# Altium footprint library TMDX654GPEVM_BRD.PcbLib: 153 footprints (part 4 of 12)
Each footprint in its own frame and in the unit in brackets; x right, y up, seen from the top. Pads: shape width x height; smd on the part's side, far side on the other; paste and mask are expansions set on the pad; w line width, h text height; cw(c..) or ccw(c..) is an arc to the next point about the centre after c.
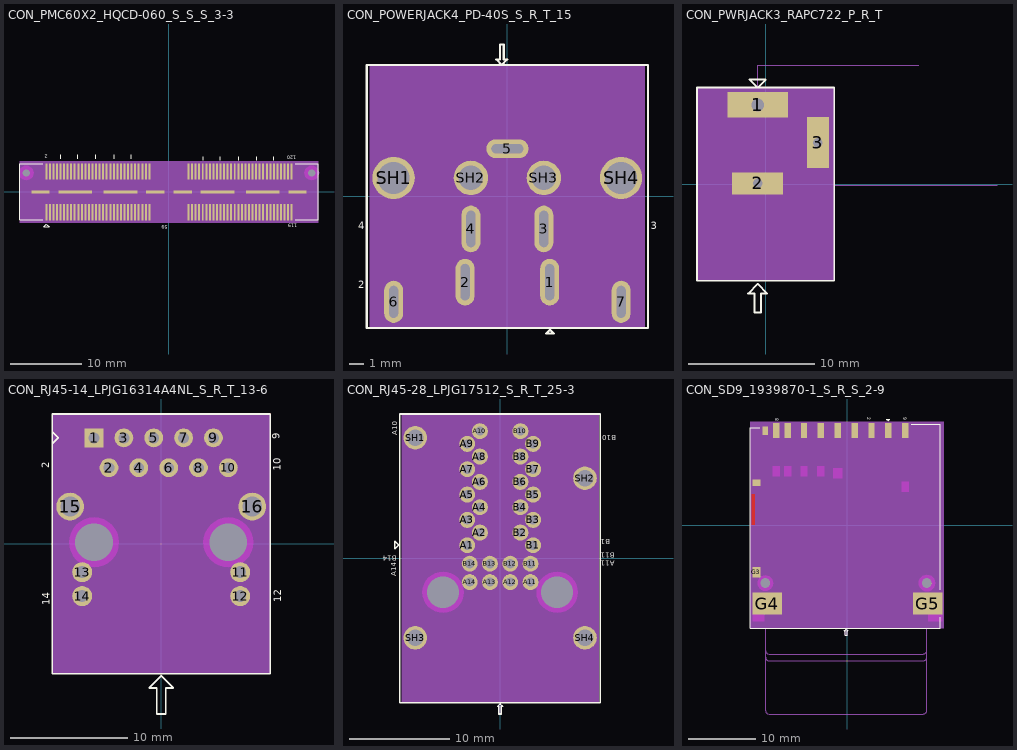
[diagram p3: the footprints below, top view; thin cyan lines are the x and y axes]

## CON_PMC60X2_HQCD-060_S_S_S_3-3 [mil] "CON_PMC60X2_HQCD-060_S_S_S_3-3"
pads (130):
  rect 11x90 smd: 1(-679.13,-112.99) 2(-679.13,112.99) 3(-659.45,-112.99) 4(-659.45,112.99) 5(-639.76,-112.99) 6(-639.76,112.99) 7(-620.08,-112.99) 8(-620.08,112.99) 9(-600.39,-112.99) 10(-600.39,112.99) 11(-580.71,-112.99) 12(-580.71,112.99) 13(-561.02,-112.99) 14(-561.02,112.99) 15(-541.34,-112.99) 16(-541.34,112.99) 17(-521.65,-112.99) 18(-521.65,112.99) 19(-501.97,-112.99) 20(-501.97,112.99) 21(-482.28,-112.99) 22(-482.28,112.99) 23(-462.6,-112.99) 24(-462.6,112.99) 25(-442.91,-112.99) 26(-442.91,112.99) 27(-423.23,-112.99) 28(-423.23,112.99) 29(-403.54,-112.99) 30(-403.54,112.99) 31(-383.86,-112.99) 32(-383.86,112.99) 33(-364.17,-112.99) 34(-364.17,112.99) 35(-344.49,-112.99) 36(-344.49,112.99) 37(-324.8,-112.99) 38(-324.8,112.99) 39(-305.12,-112.99) 40(-305.12,112.99) 41(-285.43,-112.99) 42(-285.43,112.99) 43(-265.75,-112.99) 44(-265.75,112.99) 45(-246.06,-112.99) 46(-246.06,112.99) 47(-226.38,-112.99) 48(-226.38,112.99) 49(-206.69,-112.99) 50(-206.69,112.99) 51(-187.01,-112.99) 52(-187.01,112.99) 53(-167.32,-112.99) 54(-167.32,112.99) 55(-147.64,-112.99) 56(-147.64,112.99) 57(-127.95,-112.99) 58(-127.95,112.99) 59(-108.27,-112.99) 60(-108.27,112.99) 61(108.27,-112.99) 62(108.27,112.99) 63(127.95,-112.99) 64(127.95,112.99) 65(147.64,-112.99) 66(147.64,112.99) 67(167.32,-112.99) 68(167.32,112.99) 69(187.01,-112.99) 70(187.01,112.99) 71(206.69,-112.99) 72(206.69,112.99) 73(226.38,-112.99) 74(226.38,112.99) 75(246.06,-112.99) 76(246.06,112.99) 77(265.75,-112.99) 78(265.75,112.99) 79(285.43,-112.99) 80(285.43,112.99) 81(305.12,-112.99) 82(305.12,112.99) 83(324.8,-112.99) 84(324.8,112.99) 85(344.49,-112.99) 86(344.49,112.99) 87(364.17,-112.99) 88(364.17,112.99) 89(383.86,-112.99) 90(383.86,112.99) 91(403.54,-112.99) 92(403.54,112.99) 93(423.23,-112.99) 94(423.23,112.99) 95(442.91,-112.99) 96(442.91,112.99) 97(462.6,-112.99) 98(462.6,112.99) 99(482.28,-112.99) 100(482.28,112.99) 101(501.97,-112.99) 102(501.97,112.99) 103(521.65,-112.99) 104(521.65,112.99) 105(541.34,-112.99) 106(541.34,112.99) 107(561.02,-112.99) 108(561.02,112.99) 109(580.71,-112.99) 110(580.71,112.99) 111(600.39,-112.99) 112(600.39,112.99) 113(620.08,-112.99) 114(620.08,112.99) 115(639.76,-112.99) 116(639.76,112.99) 117(659.45,-112.99) 118(659.45,112.99) 119(679.13,-112.99) 120(679.13,112.99)
  rect 100x17 smd: 121(-711.02,0) 124(-75.98,0) 125(76.38,0) 128(711.42,0)
  rect 186x17 smd: 122(-518.5,0) 123(-268.5,0) 126(268.9,0) 127(518.9,0)
  round 35 hole 40 unplated: ""(-789.76,105.12) ""(790.16,105.12)
Top Overlay:
  lines w6: -699.95,-155 -825,-155 -825,155 -699.95,155 ; -598.91,185 -598.91,205 ; -503.91,185 -503.91,205 ; -403.91,185 -403.91,205 ; -303.91,185 -303.91,205 ; -208.91,185 -208.91,205 ; 190.05,175 190.05,195 ; 285.05,175 285.05,195 ; 385.05,175 385.05,195 ; 485.05,175 485.05,195 ; 580.05,175 580.05,195 ; 700.05,-155 825,-155 825,155 700.05,155 ; -693.7,-192.5 -663.7,-192.5 -678.7,-177.5 -693.7,-192.5
  text "119" at 710.59,-175 h20
  text "120" at 705.59,200 h20
  text ".Designator" at 365.09,240 h30
  text "2" at -671.41,205 h20
  text "59" at -7.91,-185 h20
Top Courtyard:
  dashed: -822,-164.99 -822,164.99 822,164.99 822,-164.99
Top 3D Body:
  region: -825,-170 825,-170 825,170 -825,170
Multi-Layer keep-out:
  region: 830.5,105.12 829.13,94.68 825.1,84.95 818.68,76.59 810.33,70.18 800.6,66.15 790.16,64.77 779.71,66.15 769.98,70.18 761.63,76.59 755.22,84.95 751.19,94.68 749.81,105.12 751.19,115.56 755.22,125.29 761.63,133.65 769.98,140.06 779.71,144.09 790.16,145.46 800.6,144.09 810.33,140.06 818.68,133.65 825.1,125.29 829.13,115.56
  region: -749.42,105.12 -750.79,94.68 -754.82,84.95 -761.23,76.59 -769.59,70.18 -779.32,66.15 -789.76,64.77 -800.2,66.15 -809.93,70.18 -818.29,76.59 -824.7,84.95 -828.73,94.68 -830.11,105.12 -828.73,115.56 -824.7,125.29 -818.29,133.65 -809.93,140.06 -800.2,144.09 -789.76,145.46 -779.32,144.09 -769.59,140.06 -761.23,133.65 -754.82,125.29 -750.79,115.56
Mechanical47:
  text "53" at -170.32,-112.99 h10
  text "109" at 573.71,-112.99 h10
  text "50" at -209.69,112.99 h10
  text "32" at -386.86,112.99 h10
  text "10" at -603.39,112.99 h10
  text "8" at -619.08,112.99 h10
  text "6" at -638.76,112.99 h10
  text "14" at -564.02,112.99 h10
  text "26" at -445.91,112.99 h10
  text "1" at -678.13,-112.99 h10
  text "24" at -465.6,112.99 h10
  text "7" at -619.08,-112.99 h10
  text "40" at -308.12,112.99 h10
  text "52" at -190.01,112.99 h10
  text "38" at -327.8,112.99 h10
  text "54" at -170.32,112.99 h10
  text "18" at -524.65,112.99 h10
  text "28" at -426.23,112.99 h10
  text "20" at -504.97,112.99 h10
  text "2" at -678.13,112.99 h10
  text "4" at -658.45,112.99 h10
  text "127" at 506.9,0 h10
  text "128" at 699.42,0 h10
  text "35" at -347.49,-112.99 h10
  text "123" at -280.5,0 h10
  text "122" at -530.5,0 h10
  text "121" at -723.02,0 h10
  text "124" at -87.98,0 h10
  text "125" at 64.38,0 h10
  text "126" at 256.9,0 h10
  text "17" at -524.65,-112.99 h10
  text "30" at -406.54,112.99 h10
  text "36" at -347.49,112.99 h10
  text "12" at -583.71,112.99 h10
  text "22" at -485.28,112.99 h10
  text "5" at -638.76,-112.99 h10
  text "48" at -229.38,112.99 h10
  text "3" at -658.45,-112.99 h10
  text "44" at -268.75,112.99 h10
  text "46" at -249.06,112.99 h10
  text "16" at -544.34,112.99 h10
  text "34" at -367.17,112.99 h10
  text "55" at -150.64,-112.99 h10
  text "59" at -111.27,-112.99 h10
  text "57" at -130.95,-112.99 h10
  text "119" at 672.13,-112.99 h10
  text "117" at 652.45,-112.99 h10
  text "115" at 632.76,-112.99 h10
  text "113" at 613.08,-112.99 h10
  text "111" at 593.39,-112.99 h10
  text "107" at 554.02,-112.99 h10
  text "105" at 534.34,-112.99 h10
  text "60" at -111.27,112.99 h10
  text "56" at -150.64,112.99 h10
  text "58" at -130.95,112.99 h10
  text "31" at -386.86,-112.99 h10
  text "27" at -426.23,-112.99 h10
  text "51" at -190.01,-112.99 h10
  text "49" at -209.69,-112.99 h10
  text "47" at -229.38,-112.99 h10
  text "45" at -249.06,-112.99 h10
  text "43" at -268.75,-112.99 h10
  text "41" at -288.43,-112.99 h10
  text "39" at -308.12,-112.99 h10
  text "37" at -327.8,-112.99 h10
  text "33" at -367.17,-112.99 h10
  text "29" at -406.54,-112.99 h10
  text "25" at -445.91,-112.99 h10
  text "23" at -465.6,-112.99 h10
  text "21" at -485.28,-112.99 h10
  text "19" at -504.97,-112.99 h10
  text "42" at -288.43,112.99 h10
  text "68" at 164.32,112.99 h10
  text "100" at 475.28,112.99 h10
  text "101" at 494.97,-112.99 h10
  text "102" at 494.97,112.99 h10
  text "103" at 514.65,-112.99 h10
  text "104" at 514.65,112.99 h10
  text "106" at 534.34,112.99 h10
  text "108" at 554.02,112.99 h10
  text "110" at 573.71,112.99 h10
  text "112" at 593.39,112.99 h10
  text "114" at 613.08,112.99 h10
  text "116" at 632.76,112.99 h10
  text "61" at 105.27,-112.99 h10
  text "62" at 105.27,112.99 h10
  text "63" at 124.95,-112.99 h10
  text "64" at 124.95,112.99 h10
  text "65" at 144.64,-112.99 h10
  text "66" at 144.64,112.99 h10
  text "67" at 164.32,-112.99 h10
  text "69" at 184.01,-112.99 h10
  text "70" at 184.01,112.99 h10
  text "71" at 203.69,-112.99 h10
  text "72" at 203.69,112.99 h10
  text "73" at 223.38,-112.99 h10
  text "74" at 223.38,112.99 h10
  text "75" at 243.06,-112.99 h10
  text "76" at 243.06,112.99 h10
  text "77" at 262.75,-112.99 h10
  text "78" at 262.75,112.99 h10
  text "79" at 282.43,-112.99 h10
  text "80" at 282.43,112.99 h10
  text "81" at 302.12,-112.99 h10
  text "82" at 302.12,112.99 h10
  text "83" at 321.8,-112.99 h10
  text "84" at 321.8,112.99 h10
  text "85" at 341.49,-112.99 h10
  text "86" at 341.49,112.99 h10
  text "87" at 361.17,-112.99 h10
  text "88" at 361.17,112.99 h10
  text "89" at 380.86,-112.99 h10
  text "90" at 380.86,112.99 h10
  text "91" at 400.54,-112.99 h10
  text "92" at 400.54,112.99 h10
  text "93" at 420.23,-112.99 h10
  text "94" at 420.23,112.99 h10
  text "95" at 439.91,-112.99 h10
  text "96" at 439.91,112.99 h10
  text "97" at 459.6,-112.99 h10
  text "98" at 459.6,112.99 h10
  text "99" at 479.28,-112.99 h10
  text "11" at -583.71,-112.99 h10
  text "13" at -564.02,-112.99 h10
  text "9" at -599.39,-112.99 h10
  text "15" at -544.34,-112.99 h10
  text "118" at 652.45,112.99 h10
  text "120" at 672.13,112.99 h10
Top Assembly:
  lines w6: -815,-145 -815,145 815,145 815,-145 -815,-145 ; -790,-120 790,-120 790,90 760,120 -760,120 -790,90 -790,-120 ; -695,-165 -665,-165 -680,-150 -695,-165
3D body: height 150, standoff 0, extent -825,-170 825,170

## CON_POWERJACK4_PD-40S_S_R_T_15 [mil] "CON_POWERJACK4_PD-40S_S_R_T_15"
pads (11):
  oval 51x126 hole 98 slot 24 at 0 deg: 1(114.17,-231.77) 2(-114.17,-231.77) 3(98.42,-88.07) 4(-98.42,-88.07)
  oval 114x51 hole 24 slot 86 at 0 deg: 5(0,128.47)
  oval 51x114 hole 86 slot 24 at 0 deg: 6(-307.09,-284.92) 7(307.09,-284.92)
  round 114 hole 86: SH1(-307.09,49.73) SH4(307.09,49.73)
  round 93 hole 66: SH2(-98.42,49.73) SH3(98.42,49.73)
Top Overlay:
  lines w6: -380,-355.27 380,-355.27 380,354.73 -380,354.73 -380,-355.27 ; -30,369.73 -15,354.73 0,369.73 -10,369.73 -10,409.73 -20,409.73 -20,369.73 -30,369.73 ; 105,-370.27 115,-360.27 125,-370.27 105,-370.27
  text ".Designator" at -37.33,-403.62 h30
  text "2" at -403.33,-248.44 h20
  text "4" at -403.33,-88.44 h20
  text "3" at 386.67,-88.44 h20
Top Courtyard:
  dashed: -371.09,-352 -371.09,352 371.09,352 371.09,-352
Top 3D Body:
  region: -315,-345 315,-345 315,345 -315,345
Mechanical 10:
  lines w6: -315,-345 315,-345 315,345 -315,345 -315,-345 ; 105,-315.27 125,-315.27 115,-305.27 105,-315.27
  text "J2" at -27.83,-21.77 h30
Mechanical 11:
  lines w6: -315,-345 315,-345 315,345 -315,345 -315,-345 ; 105,-315.27 125,-315.27 115,-305.27 105,-315.27
  text "J2" at -27.83,-21.77 h30
Mechanical 12:
  lines w6: -315,-345 315,-345 315,345 -315,345 -315,-345 ; 105,-315.27 125,-315.27 115,-305.27 105,-315.27
  text "J2" at -27.83,-21.77 h30
Mechanical 13:
  lines w6: -315,-345 315,-345 315,345 -315,345 -315,-345 ; 105,-315.27 125,-315.27 115,-305.27 105,-315.27
  text "J2" at -27.83,-21.77 h30
Mechanical 14:
  lines w6: -315,-345 315,-345 315,345 -315,345 -315,-345 ; 105,-315.27 125,-315.27 115,-305.27 105,-315.27
  text "J2" at -27.83,-21.77 h30
Mechanical47:
  text "2" at -114.17,-238.44 h10
  text "1" at 114.17,-238.44 h10
  text "SH2" at -110.42,49.73 h10
  text "SH3" at 86.42,49.73 h10
  text "SH1" at -319.09,49.73 h10
  text "SH4" at 295.09,49.73 h10
  text "5" at -7.33,121.13 h10
  text "6" at -315.09,-284.92 h10
  text "7" at 299.09,-284.92 h10
  text "4" at -98.42,-94.74 h10
  text "3" at 98.42,-94.74 h10
Top Assembly:
  lines w6: -315,-345 315,-345 315,345 -315,345 -315,-345 ; 105,-315.27 125,-315.27 115,-305.27 105,-315.27
3D body: height 150, standoff 0, extent -315,-345 315,345

## CON_PWRJACK3_RAPC722_P_R_T [mil] "CON_PWRJACK3_RAPC722_P_R_T"
pads (3):
  rect 190x80 hole 40: 1(-25,248.45)
  rect 160x70 hole 30: 2(-25,2.38)
  rect 70x160 hole 30: 3(163.98,130.33)
Top Overlay:
  lines w6: -215,-302.5 -215,302.5 215,302.5 215,-302.5 -215,-302.5 ; -55,-342.5 -25,-312.5 5,-342.5 -15,-342.5 -15,-402.5 -35,-402.5 -35,-342.5 -55,-342.5 ; -50,327.5 -25,302.5 0,327.5 -50,327.5
  text ".Designator" at 216.5,351.85 h30
Top Courtyard:
  dashed: -212,-299.5 -212,295.45 205.98,295.45 205.98,-299.5
Top 3D Body:
  region: -215,302.5 -215,-302.5 215,-302.5 215,302.5 -5,302.5 -45,302.5
Mechanical 10:
  lines w6: -205,-292.5 155,-292.5 155,277.5 -5,277.5 -25,257.5 -45,277.5 -205,277.5 -205,-292.5
  text "J1" at -3.5,41.85 h30
Mechanical 11:
  lines w6: -205,-292.5 155,-292.5 155,277.5 -5,277.5 -25,257.5 -45,277.5 -205,277.5 -205,-292.5
  text "J1" at -3.5,41.85 h30
Mechanical 12:
  lines w6: -205,-292.5 155,-292.5 155,277.5 -5,277.5 -25,257.5 -45,277.5 -205,277.5 -205,-292.5
  text "J1" at -3.5,41.85 h30
Mechanical 13:
  lines w6: -205,-292.5 155,-292.5 155,277.5 -5,277.5 -25,257.5 -45,277.5 -205,277.5 -205,-292.5
  text "J1" at -3.5,41.85 h30
Mechanical 14:
  lines w6: -205,-292.5 155,-292.5 155,277.5 -5,277.5 -25,257.5 -45,277.5 -205,277.5 -205,-292.5
  text "J1" at -3.5,41.85 h30
Mechanical 15:
  lines w6: -215,-292.5 215,-292.5
  text "PCB-EDGE" at 31.5,-232.15 h30
Mechanical 16:
  lines w6: -215,-292.5 215,-292.5
  text "PCB-EDGE" at 31.5,-232.15 h30
Mechanical 17:
  lines w6: -215,-292.5 215,-292.5
  text "PCB-EDGE" at 31.5,-232.15 h30
Mechanical 18:
  lines w6: -215,-292.5 215,-292.5
  text "PCB-EDGE" at 31.5,-232.15 h30
Mechanical 19:
  lines w6: -215,-292.5 215,-292.5
  text "PCB-EDGE" at 31.5,-232.15 h30
Mechanical47:
  text "1" at -13,242.08 h10
  text "3" at 174.95,127 h10
  text "2" at -13,-2.92 h10
Top Assembly:
  lines w6: -205,-292.5 155,-292.5 155,277.5 -5,277.5 -25,257.5 -45,277.5 -205,277.5 -205,-292.5
Bottom Assembly:
  lines w6: -215,-292.5 215,-292.5
  text "PCB-EDGE" at 31.5,-232.15 h30
Mechanical52:
  lines w1: 350,-2.5 -10,-2.5 ; 480,372.5 -25,372.5 -25,267.5 ; 725,-2.5 165,-2.5 165,112.5 ; -25,267.5 -40,282.5 -10,282.5 -25,267.5 ; -10,-2.5 0,7.5 0,-12.5 -10,-2.5 ; 165,112.5 175,102.5 155,102.5 165,112.5 ; -95.08,227.62 -95.08,267.38 45.08,267.38 45.08,227.62 -95.08,227.62 ; -85.04,-13.52 -85.04,16.4 35.04,16.4 35.04,-13.52 -85.04,-13.52 ; 149.02,69.35 178.94,69.35 178.94,189.43 149.02,189.43 149.02,69.35
  text "SLOT SIZE: 0.76X3.05MM" at 225,7.5 h30
  text "SLOT SIZE: 1.02X3.56MM" at -30,382.5 h30
3D body: height 150, standoff 0, extent -215,-302.5 215,302.5

## CON_RJ45-14_LPJG16314A4NL_S_R_T_13-6 [mil] "CON_RJ45-14_LPJG16314A4NL_S_R_T_13-6"
pads (18):
  rect 63x63 / inner round 63 / far side rect 63x63 hole 36: 1(-225,355)
  round 63 hole 36: 2(-175,255) 3(-125,355) 4(-75,255) 5(-25,355) 6(25,255) 7(75,355) 8(125,255) 9(175,355) 10(225,255)
  round 67 hole 40: 11(264.76,-95) 12(264.76,-175) 13(-264.76,-95) 14(-264.76,-175)
  round 93 hole 66: 15(-305,125) 16(305,125)
  round 121 hole 126 unplated: ""(-225,5) ""(225,5)
Top Overlay:
  lines w6: -365,-435 -365,335 -345,355 -365,375 -365,330 -365,435 365,435 365,-435 -365,-435 ; -40,-482.5 0,-442.5 40,-482.5 15,-482.5 15,-570 -15,-570 -15,-482.5 -40,-482.5
  text ".Designator" at -382.2,121 h30
  text "2" at -374.7,252.5 h25
  text "10" at 400.85,244.92 h25
  text "14" at -373.87,-206 h25
  text "12" at 401.96,-195.41 h25
  text "9" at 396.44,351.09 h25
Top Courtyard:
  dashed: -358.5,-432 358.5,-432 358.5,432 -358.5,432
Top 3D Body:
  region: -365,435 -365,-435 365,-435 365,435
Mechanical 10:
  lines w6: -315,-425 315,-425 315,425 -315,425 -315,330 -315,375 -295,355 -315,335 -315,-425
  text "J12" at 17.8,-49 h30
Mechanical 11:
  lines w6: -315,-425 315,-425 315,425 -315,425 -315,330 -315,375 -295,355 -315,335 -315,-425
  text "J12" at 17.8,-49 h30
Mechanical 12:
  lines w6: -315,-425 315,-425 315,425 -315,425 -315,330 -315,375 -295,355 -315,335 -315,-425
  text "J12" at 17.8,-49 h30
Mechanical 13:
  lines w6: -315,-425 315,-425 315,425 -315,425 -315,330 -315,375 -295,355 -315,335 -315,-425
  text "J12" at 17.8,-49 h30
Mechanical 14:
  lines w6: -315,-425 315,-425 315,425 -315,425 -315,330 -315,375 -295,355 -315,335 -315,-425
  text "J12" at 17.8,-49 h30
Multi-Layer keep-out:
  region: -225,88.4 -241.27,86.8 -256.92,82.05 -271.34,74.35 -283.97,63.97 -294.35,51.34 -302.05,36.92 -306.8,21.27 -308.4,5 -306.8,-11.27 -302.05,-26.92 -296.92,-36.52 -294.35,-41.34 -283.97,-53.97 -271.34,-64.35 -256.92,-72.05 -241.27,-76.8 -225,-78.4 -208.73,-76.8 -193.08,-72.05 -178.66,-64.35 -166.03,-53.97 -155.65,-41.34 -153.08,-36.52 -147.95,-26.92 -143.2,-11.27 -141.6,5 -143.2,21.27 -147.95,36.92 -155.65,51.34 -166.03,63.97 -178.66,74.35 -193.08,82.05 -208.73,86.8
  region: 225,88.4 208.73,86.8 193.08,82.05 178.66,74.35 166.03,63.97 155.65,51.34 147.95,36.92 143.2,21.27 141.6,5 143.2,-11.27 147.95,-26.92 153.08,-36.52 155.65,-41.34 166.03,-53.97 178.66,-64.35 193.08,-72.05 208.73,-76.8 225,-78.4 241.27,-76.8 256.92,-72.05 271.34,-64.35 283.97,-53.97 294.35,-41.34 296.92,-36.52 302.05,-26.92 306.8,-11.27 308.4,5 306.8,21.27 302.05,36.92 294.35,51.34 283.97,63.97 271.34,74.35 256.92,82.05 241.27,86.8
Mechanical47:
  text "10" at 225,247 h10
  text "5" at -25,351 h10
  text "9" at 175,351 h10
  text "11" at 264.76,-103 h10
  text "4" at -75,251 h10
  text "2" at -175,251 h10
  text "7" at 75,351 h10
  text "8" at 125,251 h10
  text "6" at 25,251 h10
  text "3" at -125,351 h10
  text "1" at -225,351 h10
  text "12" at 264.76,-183 h10
  text "14" at -264.76,-183 h10
  text "13" at -264.76,-103 h10
  text "16" at 305,113.67 h10
  text "15" at -305,113.67 h10
Top Assembly:
  lines w6: -315,-425 315,-425 315,425 -315,425 -315,330 -315,375 -295,355 -315,335 -315,-425
3D body: height 150, standoff 0, extent -365,-435 365,435

## CON_RJ45-28_LPJG17512_S_R_T_25-3 [mil] "CON_RJ45-28_LPJG17512_S_R_T_25-3"
pads (34):
  round 63 hole 36: A1(-129.72,52.2) A2(-79.72,102.2) A3(-129.72,152.2) A4(-79.72,202.2) A5(-129.72,252.2) A6(-79.72,302.2) A7(-129.72,352.2) A8(-79.72,402.2) A9(-129.72,452.2) A10(-79.72,502.2) A11(119.88,-93.47) A12(39.96,-93.47) A13(-39.96,-93.47) A14(-119.88,-93.47) B1(130.12,52.2) B2(80.12,102.2) B3(130.12,152.2) B4(80.12,202.2) B5(130.12,252.2) B6(80.12,302.2) B7(130.12,352.2) B8(80.12,402.2) B9(130.12,452.2) B10(80.12,502.2) B11(119.88,-20.63) B12(39.96,-20.63) B13(-39.96,-20.63) B14(-119.88,-20.63)
  round 93 hole 66: SH1(-334.84,476.61) SH2(334.84,316.77) SH3(-334.84,-313.15) SH4(334.84,-313.15)
  round 121 hole 126 unplated: ""(-225,-133.23) ""(225,-133.23)
Top Overlay:
  lines w6: -415,38.03 -415,68.03 -400,53.03 -415,38.03 ; -395,-570 -395,570 395,570 395,-570 -395,-570 ; -10,-583.62 0,-573.62 10,-583.62 5,-583.62 5,-613.62 -5,-613.62 -5,-583.62 -10,-583.62
  text ".Designator" at 31.8,615 h30
  text "A10" at -405.54,485.5 h20
  text "B10" at 457.3,486.67 h20
  text "B1" at 433.8,76.67 h20
  text "A11" at 452.3,-8.33 h20
  text "B11" at 452.3,21.67 h20
  text "A14" at -410.54,-69.5 h20
  text "B14" at -407.7,11.67 h20
Top Courtyard:
  dashed: -388.34,-567 -388.34,567 388.34,567 388.34,-567
Top 3D Body:
  region: -340,-560 340,-560 340,560 -340,560
Mechanical 10:
  lines w6: -340,-560 340,-560 340,560 -340,560 -340,-560 ; -195,38.03 -195,68.03 -180,53.03 -195,38.03 ; -10,-583.62 0,-573.62 10,-583.62 5,-583.62 5,-613.62 -5,-613.62 -5,-583.62 -10,-583.62
  text "J14" at -21.72,22.2 h30
Mechanical 11:
  lines w6: -340,-560 340,-560 340,560 -340,560 -340,-560 ; -195,38.03 -195,68.03 -180,53.03 -195,38.03 ; -10,-583.62 0,-573.62 10,-583.62 5,-583.62 5,-613.62 -5,-613.62 -5,-583.62 -10,-583.62
  text "J14" at -21.72,22.2 h30
Mechanical 12:
  lines w6: -340,-560 340,-560 340,560 -340,560 -340,-560 ; -195,38.03 -195,68.03 -180,53.03 -195,38.03 ; -10,-583.62 0,-573.62 10,-583.62 5,-583.62 5,-613.62 -5,-613.62 -5,-583.62 -10,-583.62
  text "J14" at -21.72,22.2 h30
Mechanical 13:
  lines w6: -340,-560 340,-560 340,560 -340,560 -340,-560 ; -195,38.03 -195,68.03 -180,53.03 -195,38.03 ; -10,-583.62 0,-573.62 10,-583.62 5,-583.62 5,-613.62 -5,-613.62 -5,-583.62 -10,-583.62
  text "J14" at -21.72,22.2 h30
Mechanical 14:
  lines w6: -340,-560 340,-560 340,560 -340,560 -340,-560 ; -195,38.03 -195,68.03 -180,53.03 -195,38.03 ; -10,-583.62 0,-573.62 10,-583.62 5,-583.62 5,-613.62 -5,-613.62 -5,-583.62 -10,-583.62
  text "J14" at -21.72,22.2 h30
Multi-Layer keep-out:
  region: 225,-51.84 209.12,-53.4 193.85,-58.03 179.78,-65.55 167.45,-75.68 157.32,-88.01 149.8,-102.08 145.17,-117.35 143.61,-133.23 145.17,-149.11 149.8,-164.38 154.81,-173.75 157.32,-178.45 167.45,-190.78 179.78,-200.9 193.85,-208.43 209.12,-213.06 225,-214.62 240.88,-213.06 256.15,-208.43 270.22,-200.9 282.55,-190.78 292.67,-178.45 295.19,-173.75 300.2,-164.38 304.83,-149.11 306.39,-133.23 304.83,-117.35 300.2,-102.08 292.67,-88.01 282.55,-75.68 270.22,-65.55 256.15,-58.03 240.88,-53.4
  region: -225,-51.84 -240.88,-53.4 -256.15,-58.03 -270.22,-65.55 -282.55,-75.68 -292.67,-88.01 -300.2,-102.08 -304.83,-117.35 -306.39,-133.23 -304.83,-149.11 -300.2,-164.38 -295.19,-173.75 -292.67,-178.45 -282.55,-190.78 -270.22,-200.9 -256.15,-208.43 -240.88,-213.06 -225,-214.62 -209.12,-213.06 -193.85,-208.43 -179.78,-200.9 -167.45,-190.78 -157.32,-178.45 -154.81,-173.75 -149.8,-164.38 -145.17,-149.11 -143.61,-133.23 -145.17,-117.35 -149.8,-102.08 -157.32,-88.01 -167.45,-75.68 -179.78,-65.55 -193.85,-58.03 -209.12,-53.4
Mechanical47:
  text "SH1" at -334.84,464.61 h10
  text "SH2" at 334.84,304.77 h10
  text "SH3" at -334.84,-325.15 h10
  text "SH4" at 334.84,-325.15 h10
  text "A4" at -79.72,194.2 h10
  text "A10" at -79.72,490.2 h10
  text "B10" at 80.12,490.2 h10
  text "A2" at -79.72,94.2 h10
  text "A9" at -129.72,444.2 h10
  text "A5" at -129.72,244.2 h10
  text "A3" at -129.72,144.2 h10
  text "A1" at -129.72,44.2 h10
  text "A7" at -129.72,344.2 h10
  text "A6" at -79.72,294.2 h10
  text "A8" at -79.72,394.2 h10
  text "A12" at 39.96,-105.47 h10
  text "B11" at 119.88,-32.63 h10
  text "B13" at -39.96,-32.63 h10
  text "B14" at -119.88,-32.63 h10
  text "A13" at -39.96,-105.47 h10
  text "A14" at -119.88,-105.47 h10
  text "A11" at 119.88,-105.47 h10
  text "B3" at 130.12,144.2 h10
  text "B1" at 130.12,44.2 h10
  text "B7" at 130.12,344.2 h10
  text "B9" at 130.12,444.2 h10
  text "B12" at 39.96,-32.63 h10
  text "B5" at 130.12,244.2 h10
  text "B2" at 80.12,94.2 h10
  text "B6" at 80.12,294.2 h10
  text "B4" at 80.12,194.2 h10
  text "B8" at 80.12,394.2 h10
Top Assembly:
  lines w6: -340,-560 340,-560 340,560 -340,560 -340,-560 ; -195,38.03 -195,68.03 -180,53.03 -195,38.03 ; -10,-583.62 0,-573.62 10,-583.62 5,-583.62 5,-613.62 -5,-613.62 -5,-583.62 -10,-583.62
3D body: height 150, standoff 0, extent -340,-560 340,560

## CON_SD9_1939870-1_S_R_S_2-9 [mil] "CON_SD9_1939870-1_S_R_S_2-9"
pads (16):
  rect 37x85 smd: 1(241.26,551.2) 2(142.83,551.2) 3(44.41,551.2) 4(-54.02,551.2) 5(-152.44,551.2) 6(-250.87,551.2) 7(-346.34,551.2) 8(-413.27,551.2) 9(339.68,551.2)
  rect 33x49 smd: G1(-476.26,549.23)
  rect 46x37 smd: G2(-528.03,247.26)
  rect 46x61 smd: G3(-528.03,-276.75)
  rect 172x128 smd: G4(-465.24,-458.64) G5(470.98,-458.64)
  round 51 hole 56 unplated: ""(-476.26,-338.56) ""(466.26,-338.56)
Top Layer:
  region: -554.21,1.99 -554.21,179.15 -538.46,179.15 -538.46,1.99
Top Layer keep-out:
  region: -432.95,283.48 -432.95,342.54 -393.58,342.54 -393.58,283.48
  region: -366.02,283.48 -366.02,342.54 -326.65,342.54 -326.65,283.48
  region: -270.55,283.48 -270.55,342.54 -231.18,342.54 -231.18,283.48
  region: -172.13,283.48 -172.13,342.54 -132.76,342.54 -132.76,283.48
  region: 320,192.93 320,251.99 359.37,251.99 359.37,192.93
  region: -79.61,271.67 -79.61,330.73 -28.43,330.73 -28.43,271.67
  region: -550.27,-561 -550.27,-521.63 -483.35,-521.63 -483.35,-561
  region: 473.35,-561 473.35,-521.63 556.02,-521.63 556.02,-561
Top Overlay:
  lines w6: -510,567.5 -565,567.5 -565,-602.5 545,-602.5 545,-537.5 ; 375,587.5 545,587.5 545,-377.5 ; -15,-617.5 -5,-607.5 5,-617.5 0,-617.5 0,-642.5 -10,-642.5 -10,-617.5 -15,-617.5 ; 230,617.5 250,617.5 240,607.5 230,617.5
  text ".Designator" at 575,-10.98 h30
  text "9" at 328.33,627.52 h20
  text "8" at -420,622.52 h20
  text "2" at 118.33,627.52 h20
Top Courtyard:
  dashed: -558.24,600.7 -558.24,-599.5 563.98,-599.5 563.98,600.7
Top 3D Body:
  region: -565,602.5 -565,-602.5 565,-602.5 565,602.5
Mechanical 10:
  lines w6: -475,-772.5 ccw(c-455,-772.5) -455,-792.5 445,-792.5 ccw(c445,-772.5) 465,-772.5 ; -475,-732.5 ccw(c-455,-732.5) -455,-752.5 445,-752.5 ccw(c445,-732.5) 465,-732.5 ; -475,-592.5 -545,-592.5 -545,557.5 435,557.5 435,577.5 535,577.5 535,-592.5 -475,-592.5 ; -475,-592.5 -475,-1082.5 ccw(c-455,-1082.5) -455,-1102.5 445,-1102.5 ccw(c445,-1082.5) 465,-1082.5 465,-592.5 -475,-592.5 ; -15,-617.5 -5,-607.5 5,-617.5 0,-617.5 0,-642.5 -10,-642.5 -10,-617.5 -15,-617.5 ; 230,572.5 250,572.5 240,562.5 230,572.5
  text "EJECT" at -46.5,-1069.17 h20
  text "MATING" at -55,-784.17 h20
  text "PUSH" at -43,-734.17 h20
  text "J17" at -10,24.02 h30
Mechanical 11:
  lines w6: -475,-772.5 ccw(c-455,-772.5) -455,-792.5 445,-792.5 ccw(c445,-772.5) 465,-772.5 ; -475,-732.5 ccw(c-455,-732.5) -455,-752.5 445,-752.5 ccw(c445,-732.5) 465,-732.5 ; -475,-592.5 -545,-592.5 -545,557.5 435,557.5 435,577.5 535,577.5 535,-592.5 -475,-592.5 ; -475,-592.5 -475,-1082.5 ccw(c-455,-1082.5) -455,-1102.5 445,-1102.5 ccw(c445,-1082.5) 465,-1082.5 465,-592.5 -475,-592.5 ; -15,-617.5 -5,-607.5 5,-617.5 0,-617.5 0,-642.5 -10,-642.5 -10,-617.5 -15,-617.5 ; 230,572.5 250,572.5 240,562.5 230,572.5
  text "EJECT" at -46.5,-1069.17 h20
  text "MATING" at -55,-784.17 h20
  text "PUSH" at -43,-734.17 h20
  text "J17" at -10,24.02 h30
Mechanical 12:
  lines w6: -475,-772.5 ccw(c-455,-772.5) -455,-792.5 445,-792.5 ccw(c445,-772.5) 465,-772.5 ; -475,-732.5 ccw(c-455,-732.5) -455,-752.5 445,-752.5 ccw(c445,-732.5) 465,-732.5 ; -475,-592.5 -545,-592.5 -545,557.5 435,557.5 435,577.5 535,577.5 535,-592.5 -475,-592.5 ; -475,-592.5 -475,-1082.5 ccw(c-455,-1082.5) -455,-1102.5 445,-1102.5 ccw(c445,-1082.5) 465,-1082.5 465,-592.5 -475,-592.5 ; -15,-617.5 -5,-607.5 5,-617.5 0,-617.5 0,-642.5 -10,-642.5 -10,-617.5 -15,-617.5 ; 230,572.5 250,572.5 240,562.5 230,572.5
  text "EJECT" at -46.5,-1069.17 h20
  text "MATING" at -55,-784.17 h20
  text "PUSH" at -43,-734.17 h20
  text "J17" at -10,24.02 h30
Mechanical 13:
  lines w6: -475,-772.5 ccw(c-455,-772.5) -455,-792.5 445,-792.5 ccw(c445,-772.5) 465,-772.5 ; -475,-732.5 ccw(c-455,-732.5) -455,-752.5 445,-752.5 ccw(c445,-732.5) 465,-732.5 ; -475,-592.5 -545,-592.5 -545,557.5 435,557.5 435,577.5 535,577.5 535,-592.5 -475,-592.5 ; -475,-592.5 -475,-1082.5 ccw(c-455,-1082.5) -455,-1102.5 445,-1102.5 ccw(c445,-1082.5) 465,-1082.5 465,-592.5 -475,-592.5 ; -15,-617.5 -5,-607.5 5,-617.5 0,-617.5 0,-642.5 -10,-642.5 -10,-617.5 -15,-617.5 ; 230,572.5 250,572.5 240,562.5 230,572.5
  text "EJECT" at -46.5,-1069.17 h20
  text "MATING" at -55,-784.17 h20
  text "PUSH" at -43,-734.17 h20
  text "J17" at -10,24.02 h30
Mechanical 14:
  lines w6: -475,-772.5 ccw(c-455,-772.5) -455,-792.5 445,-792.5 ccw(c445,-772.5) 465,-772.5 ; -475,-732.5 ccw(c-455,-732.5) -455,-752.5 445,-752.5 ccw(c445,-732.5) 465,-732.5 ; -475,-592.5 -545,-592.5 -545,557.5 435,557.5 435,577.5 535,577.5 535,-592.5 -475,-592.5 ; -475,-592.5 -475,-1082.5 ccw(c-455,-1082.5) -455,-1102.5 445,-1102.5 ccw(c445,-1082.5) 465,-1082.5 465,-592.5 -475,-592.5 ; -15,-617.5 -5,-607.5 5,-617.5 0,-617.5 0,-642.5 -10,-642.5 -10,-617.5 -15,-617.5 ; 230,572.5 250,572.5 240,562.5 230,572.5
  text "EJECT" at -46.5,-1069.17 h20
  text "MATING" at -55,-784.17 h20
  text "PUSH" at -43,-734.17 h20
  text "J17" at -10,24.02 h30
Multi-Layer keep-out:
  region: 466.26,-386.98 478.79,-385.33 490.47,-380.49 500.49,-372.8 508.19,-362.77 513.02,-351.09 514.67,-338.56 513.02,-326.03 508.19,-314.36 500.49,-304.33 490.47,-296.64 478.79,-291.8 466.26,-290.15 453.73,-291.8 442.05,-296.64 432.02,-304.33 424.33,-314.36 419.49,-326.03 417.84,-338.56 419.49,-351.09 424.33,-362.77 432.02,-372.8 442.05,-380.49 453.73,-385.33
  region: -476.26,-384.09 -464.48,-382.54 -453.5,-377.99 -444.07,-370.76 -436.83,-361.33 -432.28,-350.35 -430.73,-338.56 -432.28,-326.78 -436.83,-315.8 -444.07,-306.37 -453.5,-299.14 -464.48,-294.59 -476.26,-293.04 -488.04,-294.59 -499.02,-299.14 -508.45,-306.37 -515.69,-315.8 -520.24,-326.78 -521.79,-338.56 -520.24,-350.35 -515.69,-361.33 -508.45,-370.76 -499.02,-377.99 -488.04,-382.54
Mechanical47:
  text "4" at -54.02,555.2 h10
  text "G2" at -528.03,255.26 h10
  text "6" at -250.87,555.2 h10
  text "G4" at -465.24,-450.64 h10
  text "3" at 44.41,555.2 h10
  text "G5" at 470.98,-450.64 h10
  text "8" at -413.27,555.2 h10
  text "5" at -152.44,555.2 h10
  text "1" at 241.26,555.2 h10
  text "G1" at -476.26,557.23 h10
  text "7" at -346.34,555.2 h10
  text "9" at 339.68,555.2 h10
  text "2" at 142.83,555.2 h10
  text "G3" at -528.03,-268.75 h10
Top Assembly:
  lines w6: -475,-772.5 ccw(c-455,-772.5) -455,-792.5 445,-792.5 ccw(c445,-772.5) 465,-772.5 ; -475,-732.5 ccw(c-455,-732.5) -455,-752.5 445,-752.5 ccw(c445,-732.5) 465,-732.5 ; -475,-592.5 -545,-592.5 -545,557.5 435,557.5 435,577.5 535,577.5 535,-592.5 -475,-592.5 ; -475,-592.5 -475,-1082.5 ccw(c-455,-1082.5) -455,-1102.5 445,-1102.5 ccw(c445,-1082.5) 465,-1082.5 465,-592.5 -475,-592.5 ; -15,-617.5 -5,-607.5 5,-617.5 0,-617.5 0,-642.5 -10,-642.5 -10,-617.5 -15,-617.5 ; 230,572.5 250,572.5 240,562.5 230,572.5
  text "PUSH" at -43,-734.17 h20
  text "MATING" at -55,-784.17 h20
  text "EJECT" at -46.5,-1069.17 h20
3D body: height 150, standoff 0, extent -565,-602.5 565,602.5